# Altium footprint library diodes.PcbLib: 41 footprints (part 3 of 3)
Each footprint in its own frame and in the unit in brackets; x right, y up, seen from the top. Pads: shape width x height; smd on the part's side, far side on the other; paste and mask are expansions set on the pad; w line width, h text height; cw(c..) or ccw(c..) is an arc to the next point about the centre after c.
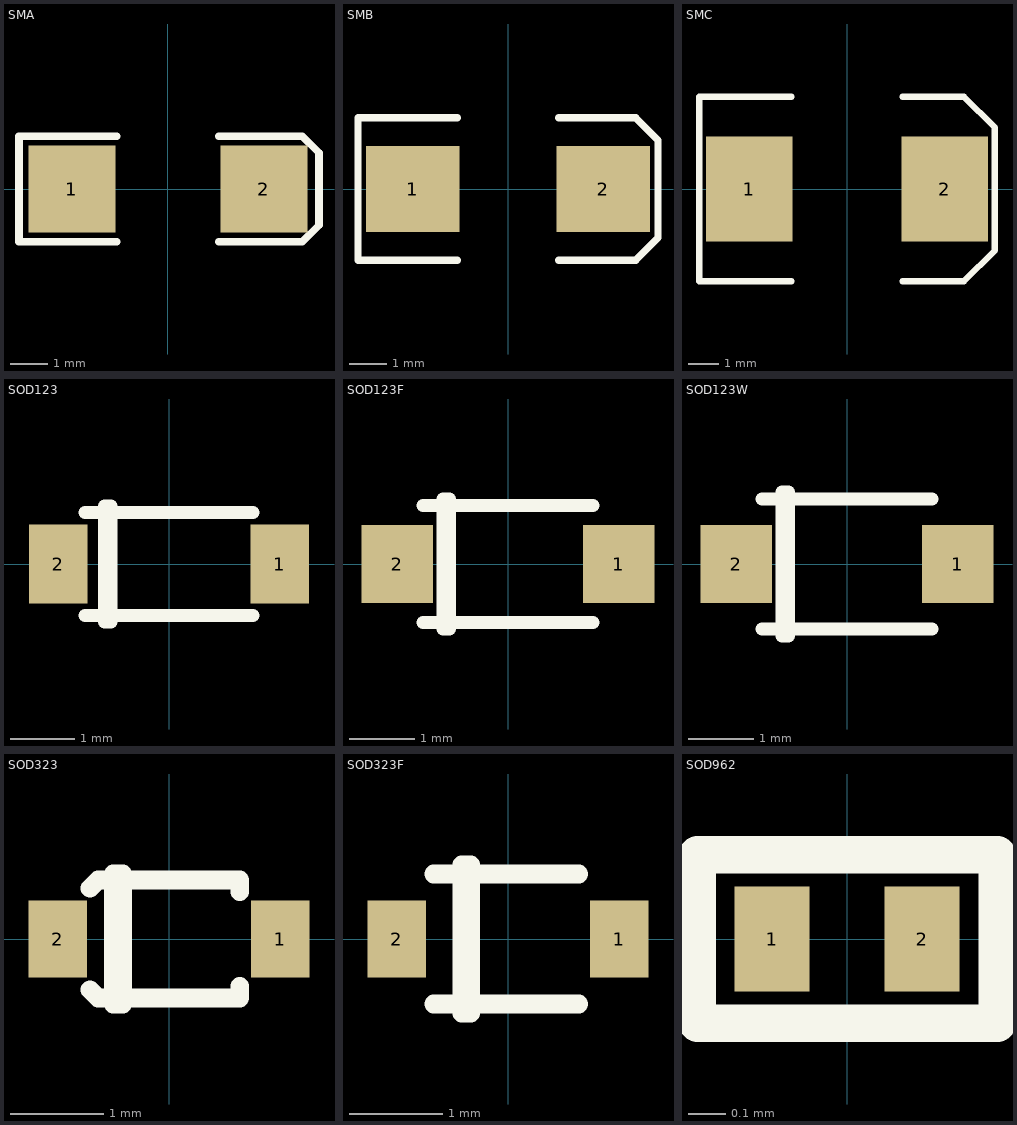
[diagram p2: the footprints below, top view; thin cyan lines are the x and y axes]

## SMA [mm]
height 2.4
pads (2):
  rect 2.3x2.3 smd: 1(-2.54,0) 2(2.54,0)
Top Overlay:
  lines w0.2: -1.35,-1.397 -3.937,-1.397 -3.937,1.397 -1.35,1.397 ; 1.35,-1.397 3.556,-1.397 4,-0.953 4,0.953 3.556,1.397 1.35,1.397
3D body "SW3dPS-DO-214AC SMA.step": height 2.4, standoff 0, extent -2.6,-1.3 2.6,1.3

## SMB [mm]
height 2.4
pads (2):
  rect 2.5x2.3 smd: 1(-2.54,0) 2(2.54,0)
Top Overlay:
  lines w0.2: -1.35,-1.9 -4,-1.9 -4,1.9 -1.35,1.9 ; 1.35,-1.9 3.4,-1.9 4,-1.3 4,1.3 3.4,1.9 1.35,1.9
3D body "SW3dPS-DO-214AA SMB.step": height 2.3, standoff 0, extent -2.7,-1.8 2.7,1.8

## SMC [mm]
height 2.5
pads (2):
  rect 2.8x3.4 smd: 1(-3.175,0) 2(3.175,0)
Top Overlay:
  lines w0.2: -1.8,-3 -4.8,-3 -4.8,3 -1.8,3 ; 1.8,-3 3.8,-3 4.8,-2 4.8,2 3.8,3 1.8,3
3D body "SW3dPS-DO-214AB SMC.step": height 2.3, standoff 0, extent -3.975,-2.95 3.975,2.95

## SOD123 [mm]
height 1.4
pads (2):
  rect 0.91x1.22 smd: 1(1.714,0) 2(-1.714,0)
Top Overlay:
  lines w0.2: -1.3,-0.8 1.3,-0.8 ; -1.3,0.8 1.3,0.8 ; -1,-0.9 -0.9,-0.9 -0.9,0.9 -1,0.9 -1,-0.9
3D body "User Library-SOD3716X14.step": height 1.35, standoff 0, extent -1.85,-0.775 1.85,0.775

## SOD123F [mm]
height 1.4
pads (2):
  rect 1.1x1.2 smd: 1(1.7,0) 2(-1.7,0)
Top Overlay:
  lines w0.2: -1.3,-0.9 1.3,-0.9 ; -1.3,0.9 1.3,0.9 ; -1,-1 -1,1 -0.9,1 -0.9,-1 -1,-1
3D body "User Library-SOD123F.step": height 1.2, standoff -0.01, extent -1.9,-0.85 1.85,0.85

## SOD123W [mm]
height 1.4
pads (2):
  rect 1.1x1.2 smd: 1(1.7,0) 2(-1.7,0)
Top Overlay:
  lines w0.2: -1.3,-1 1.3,-1 ; -1.3,1 1.3,1 ; -1,-1.1 -0.9,-1.1 -0.9,1.1 -1,1.1 -1,-1.1
3D body "User Library-SOD123W.step": height 1.1, standoff -0.01, extent -2,-0.95 2,0.95

## SOD323 [mm] "JAITA Marking: SC76 / SC-76"
height 1.1
pads (2):
  rect 0.63x0.83 smd: 1(1.2,0) 2(-1.2,0)
Top Overlay:
  lines w0.2: -0.851,-0.546 -0.762,-0.635 0.762,-0.635 0.762,-0.508 ; -0.851,0.546 -0.762,0.635 -0.635,0.635 ; -0.638,0.635 0.762,0.635 0.762,0.508 ; -0.6,-0.7 -0.6,0.7 -0.5,0.7 -0.5,-0.7 -0.6,-0.7
3D body "User Library-SOD2513X11.step": height 1.1, standoff 0, extent -1.35,-0.625 1.35,0.625

## SOD323F [mm] "JAITA Marking: SC90 / SC-90"
height 1.1
pads (2):
  rect 0.63x0.83 smd: 1(1.2,0) 2(-1.2,0)
Top Overlay:
  lines w0.2: -0.8,-0.7 0.762,-0.7 ; -0.8,0.7 0.762,0.7 ; -0.4,-0.8 -0.4,0.8 ; -0.4,-0.8 -0.4,0.8 ; -0.4,-0.8 -0.5,-0.8 -0.5,0.8 -0.4,0.8
3D body "User Library-SOD323F-1.step": height 1, standoff 0, extent -1.25,-0.675 1.25,0.675

## SOD962 [mm]
pads (2):
  rect 0.2x0.28 smd: 1(-0.2,0) 2(0.2,0)
Top Overlay:
  lines w0.1: -0.4,-0.225 -0.4,0.225 0.4,0.225 0.4,-0.225 0.375,-0.225 -0.4,-0.225
3D body "User Library-SOD962.step": height 0.33, standoff 0, extent -0.3,-0.15 0.3,0.15